# EAGLE library part OPTO-6N137 (library SPCoast)
High Speed OPTO COUPLER Logic Gate output
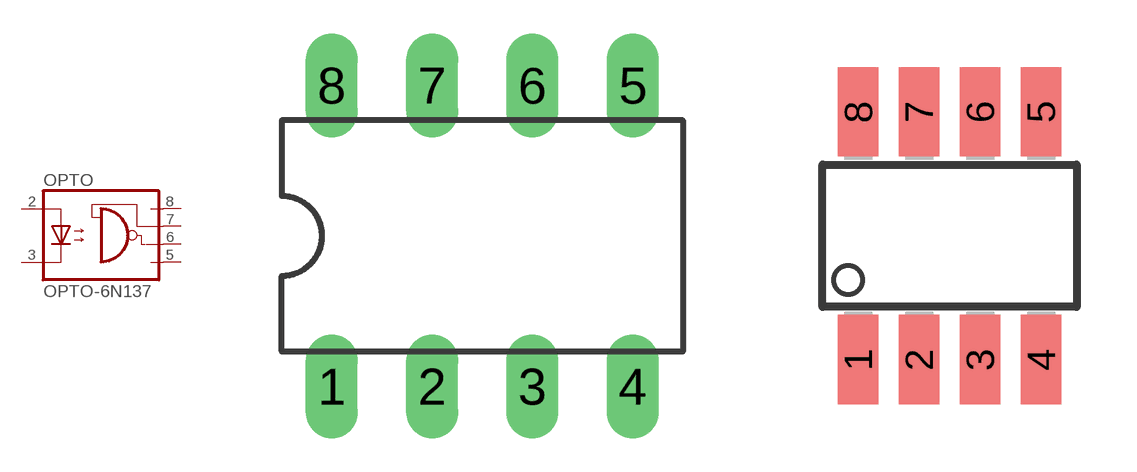
[diagram p10: symbol with the pads of DIL08; footprints DIL08, SM8]

Designator prefix OPTO

## OPTO-6N137  [DIL08]
2  A  pas
3  C  pas
5  GND  pas
6  VO  pas
7  VE  pas
8  VCC  pas

## OPTO-6N137S  [SM8]
Pads as for DIL08

## Footprint DIL08 (pad centres in mm)
Standard 8-pin DIP Packaging
drill 0.813 long: 1 -3.81,-3.81; 2 -1.27,-3.81; 3 1.27,-3.81; 4 3.81,-3.81; 5 3.81,3.81; 6 1.27,3.81; 7 -1.27,3.81; 8 -3.81,3.81

## Footprint SM8 (pad centres in mm)
SM8 Package
smd 1.016 x 2.235: 1 -2.286,-3.099; 2 -0.762,-3.099; 3 0.762,-3.099; 4 2.286,-3.099; 5 2.286,3.099; 6 0.762,3.099; 7 -0.762,3.099; 8 -2.286,3.099